# Altium schematic symbol library SCH - POWER - LINEAR VREG - TI TPS74801-Q1RGW.SchLib: 1 symbol
Pins are listed as number, name and electrical type; pins without a type are passive.

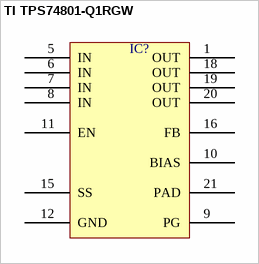
[diagram p0: symbol TI TPS74801-Q1RGW]

## TI TPS74801-Q1RGW
designator IC?  (value not drawn)
pins: 1 OUT, 5 IN, 6 IN, 7 IN, 8 IN, 9 PG, 10 BIAS, 11 EN, 12 GND, 15 SS, 16 FB, 18 OUT, 19 OUT, 20 OUT, 21 PAD